# Altium schematic symbol library IRF9358TRPBF.SchLib: 1 symbol
Pins are listed as number, name and electrical type; pins without a type are passive.

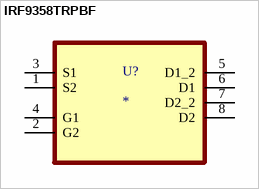
[diagram p0: symbol IRF9358TRPBF]

## IRF9358TRPBF
designator U?
HEXFET Power MOSFET; MF: {'manufacturer': u'Infineon'}; MP: IRF9358TRPBF; Package: None; Price: None; Value: *; Availability: Unavailable
footprint SOIC127P600X175-8N
pins: 1 S2, 2 G2, 3 S1, 4 G1, 5 D1_2, 6 D1, 7 D2_2, 8 D2